# EAGLE library part MAX15062AATA+T (library power_dist)
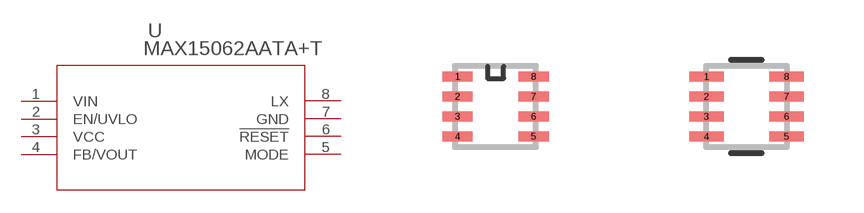
[diagram p4: symbol with the pads of 21-0487A_MXM; footprints 21-0487A_MXM, 21-0487A_MXM-M]

Designator prefix U

## MAX15062AATA+T (BUILT_BY: EMA_Jessica; COPYRIGHT: Copyright (C) 2018 Accelerated Designs. All rights reserved; MANUFACTURER_PART_NUMBER: MAX15062AATA+T; REVISION: 1; SOURCELIBRARY: Maxim_DP_2018-06-12; VENDOR: Maxim Integrated Products)  [21-0487A_MXM]
1  VIN  in
2  EN/UVLO  in
3  VCC  pwr
4  FB/VOUT
5  MODE  in
6  !RESET  out
7  GND  pwr
8  LX  pas

## MAX15062AATA+T21-0487A_MXM-M (BUILT_BY: EMA_Jessica; COPYRIGHT: Copyright (C) 2018 Accelerated Designs. All rights reserved; MANUFACTURER_PART_NUMBER: MAX15062AATA+T; REVISION: 1; SOURCELIBRARY: Maxim_DP_2018-06-12; VENDOR: Maxim Integrated Products)  [21-0487A_MXM-M]
Pads as for 21-0487A_MXM

## MAX15062AATA+T21-0487A_MXM-L (BUILT_BY: EMA_Jessica; COPYRIGHT: Copyright (C) 2018 Accelerated Designs. All rights reserved; MANUFACTURER_PART_NUMBER: MAX15062AATA+T; REVISION: 1; SOURCELIBRARY: Maxim_DP_2018-06-12; VENDOR: Maxim Integrated Products)  [21-0487A_MXM-L]
Pads as for 21-0487A_MXM

## Footprint 21-0487A_MXM (pad centres in mm)
smd 0.762 x 0.254: 1 -0.953,0.75; 2 -0.953,0.25; 3 -0.953,-0.25; 4 -0.953,-0.75; 5 0.953,-0.75; 6 0.953,-0.25; 7 0.953,0.25; 8 0.953,0.75

## Footprint 21-0487A_MXM-M (pad centres in mm)
smd 0.864 x 0.254: 1 -1.003,0.75; 2 -1.003,0.25; 3 -1.003,-0.25; 4 -1.003,-0.75; 5 1.003,-0.75; 6 1.003,-0.25; 7 1.003,0.25; 8 1.003,0.75

## Footprint 21-0487A_MXM-L (pad centres in mm)
smd 0.66 x 0.254: 1 -0.902,0.75; 2 -0.902,0.25; 3 -0.902,-0.25; 4 -0.902,-0.75; 5 0.902,-0.75; 6 0.902,-0.25; 7 0.902,0.25; 8 0.902,0.75